# Altium footprint library PCB_Lib.PcbLib: 3 footprints
Each footprint in its own frame and in the unit in brackets; x right, y up, seen from the top. Pads: shape width x height; smd on the part's side, far side on the other; paste and mask are expansions set on the pad; w line width, h text height; cw(c..) or ccw(c..) is an arc to the next point about the centre after c.
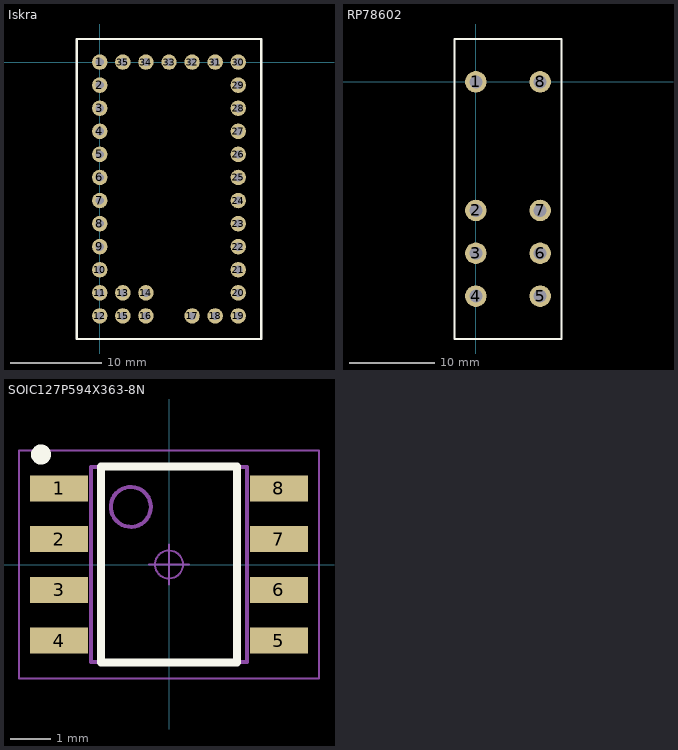
[diagram p0: the footprints below, top view; thin cyan lines are the x and y axes]

## Iskra [mm]
pads (35):
  round 1.7 hole 0.9: 1(0,0) 2(0,-2.54) 3(0,-5.08) 4(0,-7.62) 5(0,-10.16) 6(0,-12.7) 7(0,-15.24) 8(0,-17.78) 9(0,-20.32) 10(0,-22.86) 11(0,-25.4) 12(0,-27.94) 13(2.54,-25.4) 14(5.08,-25.4) 15(2.54,-27.94) 16(5.08,-27.94) 17(10.16,-27.94) 18(12.7,-27.94) 19(15.24,-27.94) 20(15.24,-25.4) 21(15.24,-22.86) 22(15.24,-20.32) 23(15.24,-17.78) 24(15.24,-15.24) 25(15.24,-12.7) 26(15.24,-10.16) 27(15.24,-7.62) 28(15.24,-5.08) 29(15.24,-2.54) 30(15.24,0) 31(12.7,0) 32(10.16,0) 33(7.62,0) 34(5.08,0) 35(2.54,0)
Top Overlay:
  lines w0.254: -2.54,-30.48 -2.54,2.54 17.78,2.54 17.78,-30.48 -2.54,-30.48

## RP78602 [mm]
height 9
pads (8):
  round 2.5 hole 1.5: 1(0,0) 2(0,-15) 3(0,-20) 4(0,-25) 5(7.5,-25) 6(7.5,-20) 7(7.5,-15) 8(7.5,0)
Top Overlay:
  lines w0.254: -2.5,-30 10,-30 10,5 -2.5,5 -2.5,-30

## SOIC127P594X363-8N [mm] "SOIC, 1.27mm pitch; 8  pin, 3.91mm W X 4.88mm L, IPC Medium Density"
height 3.63
pads (8):
  rect 1.45x0.65 smd: 1(-2.75,1.905) 2(-2.75,0.635) 3(-2.75,-0.635) 4(-2.75,-1.905) 5(2.75,-1.905) 6(2.75,-0.635) 7(2.75,0.635) 8(2.75,1.905)
Top Overlay:
  circle w0.25: c-3.2,2.75 r0.125
  lines w0.2: -1.7,-2.45 1.7,-2.45 1.7,2.45 -1.7,2.45 -1.7,-2.45
Mechanical 14:
  circle w0.1: c-0.955,1.44 r0.5
  lines w0.1: -1.955,-2.44 1.955,-2.44 1.955,2.44 -1.955,2.44 -1.955,-2.44
Mechanical 15:
  circle w0.05: c0,0 r0.35
  lines w0.05: -0.5,0 0.5,0 ; 0,-0.5 0,0.5 ; -3.75,-2.85 3.75,-2.85 3.75,2.85 -3.75,2.85 -3.75,-2.85
3D body: height 3.63, standoff 0, extent -3.1,-2.5 3.1,2.5